# Altium schematic symbol library BHL_Compass.SCHLIB: 11 symbols
Pins are listed as number, name and electrical type; pins without a type are passive.

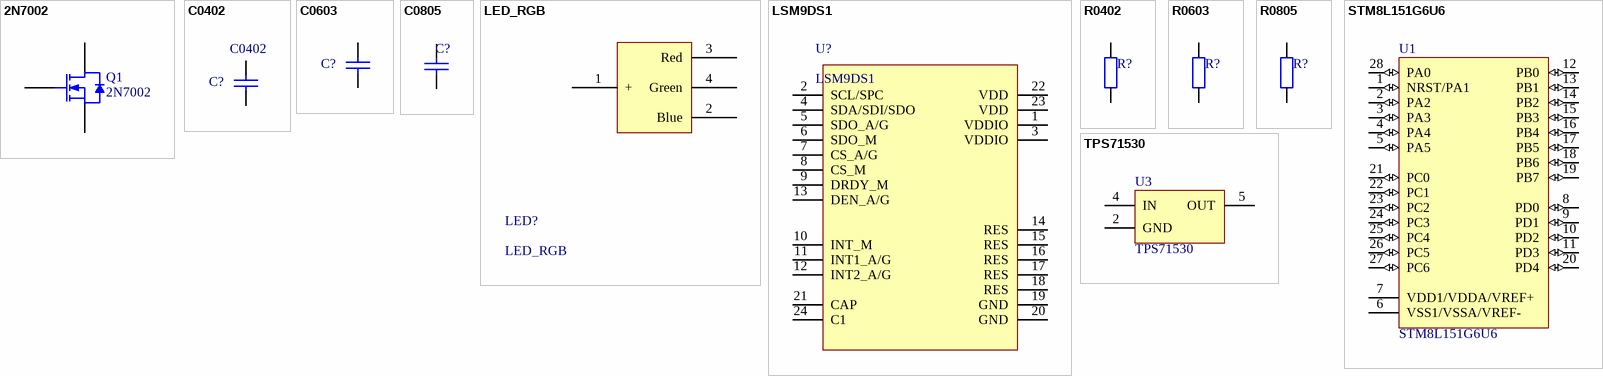
[diagram p0: symbols 2N7002 to TPS71530]

## 2N7002
designator Q1
N-channel Enhancement Mode Field-effect Transistor; Published: 17-Sep-2003; LatestRevisionDate: 12-Dec-2006; LatestRevisionNote: IPC-7351 Footprint Added.; DatasheetVersion: 27-Jul-2000; PackageVersion: May-1999; PackageReference: SOT23; Publisher: Altium Limited; PackageDescription: 3-Pin SOT-23 Package 0.95 mm Pitch, 2.3 mm Lead Span; ComponentLink1Description: Manufacturer Link; ComponentLink1URL: http://www.semiconductors.philips.com/; ComponentLink2Description: Datasheet; ComponentLink2URL: http://www.semiconductors.philips.com/acrobat/datasheets/2N7002_4.pdf
footprint SOT23-3L (SOT23, 3-Leads, Body 2.9x1.3mm, Pitch 0.95mm, Lead Span 2.5mm, IPC High Density)
footprint 318-08 (SOT-23; 3 Leads; Body 3.0 x 2.6 mm, inc. leads (LxW max))
pins: 1 G, 2 S, 3 D

## C0402
designator C?
Конденсатор; Корпус: 0402
footprint CAPC1005N (Chip Capacitor, Body 1.0x0.5mm, IPC Medium Density)
pins: 1, 2

## C0603
designator C?  (value not drawn)
Конденсатор; Корпус: 0805; Номинал: 100nF
footprint CAPC1608N (Chip Capacitor, Body 1.6x0.8mm, IPC Medium Density)
pins: 1, 2

## C0805
designator C?  (value not drawn)
Конденсатор; Напряжение: 25 В; Допуск: +-10%; Диэлектрик: X7R; Обозначение: C; Корпус: 0805; Номинал: 1uF
footprint CAPC2012N (Chip Capacitor, Body 2.0x1.3mm, IPC Medium Density)
pins: 1, 2

## LED_RGB
designator LED?
Светодиод
footprint LED_RGB
pins: 1 +, 2 Blue, 3 Red, 4 Green

## LSM9DS1
designator U?
iNEMO digital compass
footprint QFN43P350X300X100-24M (QFN, 24-Leads, Body 3,50x3,00mm, Pitch 0,43mm, IPC Low Density)
pins: 1 VDDIO, 2 SCL/SPC, 3 VDDIO, 4 SDA/SDI/SDO, 5 SDO_A/G, 6 SDO_M, 7 CS_A/G, 8 CS_M, 9 DRDY_M, 10 INT_M, 11 INT1_A/G, 12 INT2_A/G, 13 DEN_A/G, 14 RES, 15 RES, 16 RES, 17 RES, 18 RES, 19 GND, 20 GND, 21 CAP, 22 VDD, 23 VDD, 24 C1

## R0402
designator R?  (value not drawn)
Резистор; Корпус: 0402
footprint RESC1005N (Chip Resistor, Body 1.1x0.5mm, IPC Medium Density)
pins: 1, 2

## R0603
designator R?  (value not drawn)
Резистор; Корпус: 0805; Номинал: 10k
footprint RESC1608N (Chip Resistor, Body 1.6x0.8mm, IPC Medium Density)
pins: 1, 2

## R0805
designator R?  (value not drawn)
Резистор; Корпус: 0805; Номинал: 390k
footprint RESC2012N (Chip Resistor, Body 2.0x1.3mm, IPC Medium Density)
pins: 1, 2

## STM8L151G6U6
designator U1
STM8L ARM-based EnergyLite 8-bit MCU, 32 kB Flash, 2 kB Internal RAM, -40 to +85°C Temperature, 28-pin UFQFPN, Tray; PackageVersion: 26/04/2010; PackageReference: UFQFPN28; PackageDescription: 28-Pin Ultra Thin Fine Pitch Quad Flat No-Lead, 4 x 4 x 0.55 mm Body, 0.5 mm Pitch; ComponentLink1Description: Manufacturer URL; ComponentLink1URL: http://www.st.com/; ComponentLink2Description: STM8L151/152,x4,x6 Datasheet; ComponentLink2URL: http://www.st.com/internet/com/TECHNICAL_RESOURCES/TECHNICAL_LITERATURE/DATASHEET/CD00240181.pdf; ComponentLink3Description: STM8L Family Web Page; ComponentLink3URL: http://www.st.com/internet/mcu/subclass/1381.jsp
footprint UFQFPN28_V (Manufacturer "STMicroelectronics" not found)
pins: 1 NRST/PA1 (io), 2 PA2 (io), 3 PA3 (io), 4 PA4 (io), 5 PA5 (io), 6 VSS1/VSSA/VREF- (power), 7 VDD1/VDDA/VREF+ (power), 8 PD0 (io), 9 PD1 (io), 10 PD2 (io), 11 PD3 (io), 12 PB0 (io), 13 PB1 (io), 14 PB2 (io), 15 PB3 (io), 16 PB4 (io), 17 PB5 (io), 18 PB6 (io), 19 PB7 (io), 20 PD4 (io), 21 PC0 (io), 22 PC1 (io), 23 PC2 (io), 24 PC3 (io), 25 PC4 (io), 26 PC5 (io), 27 PC6 (io), 28 PA0 (io)

## TPS71530
designator U3
Стабилизатор
footprint TSOP65P210X50-5N (TSOP, 5-Leads, Body 2.0x1.3mm (max), Pitch 0.65mm, IPC Medium Density)
pins: 2 GND, 4 IN, 5 OUT